# Altium schematic symbol library Inductor SMD.SchLib: 11 symbols
Pins are listed as number, name and electrical type; pins without a type are passive.

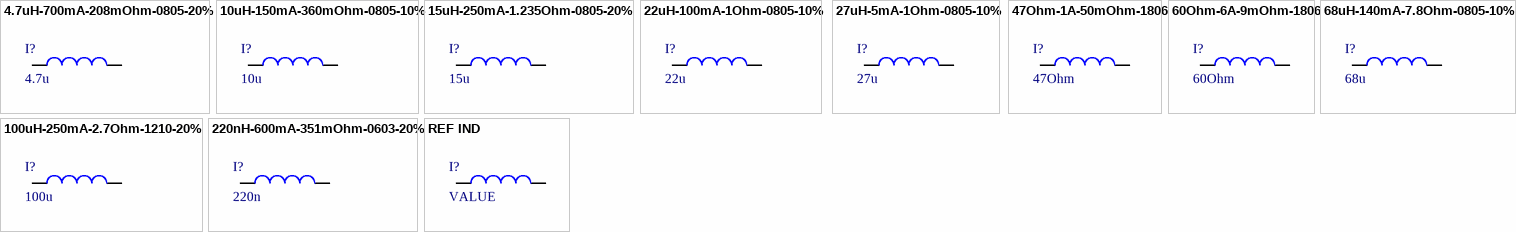
[diagram p0: symbols 4.7uH-700mA-208mOhm-0805-20% to REF IND]

## 4.7uH-700mA-208mOhm-0805-20%
designator I?, comment 4.7u
4.7u, 700mA Current Rating, 208mOhm Resistance, 0805 Package; ManufacturerName: Taiyo Yuden; ManufacturerReference: CKP2012N4R7M-T; InventoryNumber: IND001; Value: 4.7uH; Other: 20%; Category: Inductor; DistributorName: Digikey; DistributorReference: 587-2773-1-ND; Resistance: 208mOhm; PackageReference: 0805; CurrentRating: 700mA
footprint IND 0805/2012 Taiyo Yuden (Chip Inductor, 2-Leads, Body 2.00x1.25mm, IPC High Density)
pins: 1, 2

## 10uH-150mA-360mOhm-0805-10%
designator I?, comment 10u
10u, 150mA Current Rating, 360mOhm Resistance, 0805 Package; ManufacturerName: Taiyo Yuden; ManufacturerReference: LBR2012T100K; InventoryNumber: INDOO2; Value: 10uH; Other: 10%; Category: Inductor; DistributorName: Digikey; DistributorReference: 587-2045-1-ND; Resistance: 360mOhm; PackageReference: 0805; CurrentRating: 150mA
footprint IND 0805/2012 Taiyo Yuden (Chip Inductor, 2-Leads, Body 2.00x1.25mm, IPC High Density)
pins: 1, 2

## 15uH-250mA-1.235Ohm-0805-20%
designator I?, comment 15u
15u, 250mA Current Rating, 1.235Ohm Resistance, 0805 Package; ManufacturerName: TDK Corporation; ManufacturerReference: MLZ2012M150WT000; InventoryNumber: IND003; Value: 15uH; Other: 20%; Category: Inductor; DistributorName: Digikey; DistributorReference: 445-6397-1-ND; Resistance: 1.235Ohm; PackageReference: 0805; CurrentRating: 250mA
footprint IND 0805/2012 Taiyo Yuden (Chip Inductor, 2-Leads, Body 2.00x1.25mm, IPC High Density)
pins: 1, 2

## 22uH-100mA-1Ohm-0805-10%
designator I?, comment 22u
22u, 100mA Current Rating, 1Ohm Resistance, 0805 Package; ManufacturerName: Taiyo Yuden; ManufacturerReference: LBR2012T220K; InventoryNumber: IND004; Value: 22uH; Other: 10%; Category: Inductor; DistributorName: Digikey; DistributorReference: 587-2046-1-ND; Resistance: 1 Ohm; PackageReference: 0805; CurrentRating: 100mA
footprint IND 0805/2012 Taiyo Yuden (Chip Inductor, 2-Leads, Body 2.00x1.25mm, IPC High Density)
pins: 1, 2

## 27uH-5mA-1Ohm-0805-10%
designator I?, comment 27u
27u, 5mA Current Rating, 1Ohm Resistance, 0805 Package; ManufacturerName: TDK Corporation; ManufacturerReference: MLF2012C270KT000; InventoryNumber: IND005; Value: 27uH; Other: 10%; Category: Inductor; DistributorName: Digikey; DistributorReference: 445-1064-1-ND; Resistance: 1 Ohm; PackageReference: 0805; CurrentRating: 5mA
footprint IND 0805/2012 Taiyo Yuden (Chip Inductor, 2-Leads, Body 2.00x1.25mm, IPC High Density)
pins: 1, 2

## 47Ohm-1A-50mOhm-1806
designator I?, comment 47Ohm
47Ohm, 1A Current Rating, 50mOhm Resistance, 0805 Package; ManufacturerName: Taiyo Yuden; ManufacturerReference: BK2125HS470-T; InventoryNumber: IND007; Resistance@Frequency: 47Ohm@100Mhz; Category: Inductor; DistributorName: Digikey; DistributorReference: 587-1911-1-ND; DC Resistance: 50mOhm; PackageReference: 0805; CurrentRating: 1A
footprint IND 0805/2012 Taiyo Yuden (Chip Inductor, 2-Leads, Body 2.00x1.25mm, IPC High Density)
pins: 1, 2

## 60Ohm-6A-9mOhm-1806
designator I?, comment 60Ohm
60Ohm, 6A Current Rating, 9mOhm Resistance, 1806 Package; ManufacturerName: Murata Electronics North America; ManufacturerReference: BLM41PG600SN1L; InventoryNumber: IND006; Resistance@Frequency: 60Ohm@100Mhz; Category: Inductor; DistributorName: Digikey; DistributorReference: 490-1058-1-ND; DC Resistance: 9mOhm; PackageReference: 1806; CurrentRating: 6A
footprint IND 1806/4516 Murata Electronics North America (Chip Inductor, 2-Leads, Body 4.50x1.60mm, IPC High Density)
pins: 1, 2

## 68uH-140mA-7.8Ohm-0805-10%
designator I?, comment 68u
68u, 140mA Current Rating, 7.8Ohm Resistance, 0805 Package; ManufacturerName: Taiyo Yuden; ManufacturerReference: CB2012T680K; InventoryNumber: IND009; Value: 68uH; Other: 10%; Category: Inductor; DistributorName: Digikey; DistributorReference: 587-2461-1-ND; Resistance: 7.8Ohm; PackageReference: 0805; CurrentRating: 140mA
footprint IND 0805/2012 Taiyo Yuden (Chip Inductor, 2-Leads, Body 2.00x1.25mm, IPC High Density)
pins: 1, 2

## 100uH-250mA-2.7Ohm-1210-20%
designator I?, comment 100u
100u, 250mA Current Rating, 2.7Ohm Resistance, 1210 Package; ManufacturerName: Murata Electronics North America; ManufacturerReference: LQH32PN101MN0L; InventoryNumber: IND010; Value: 100uH; Other: 20%; Category: Inductor; DistributorName: Digikey; DistributorReference: 490-11680-1-ND; Resistance: 2.7Ohm; PackageReference: 1210; CurrentRating: 250mA
footprint IND 1210/3225 Murata Electronics North America
pins: 1, 2

## 220nH-600mA-351mOhm-0603-20%
designator I?, comment 220n
220n, 600mA Current Rating, 351mOhm Resistance, 0603 Package; ManufacturerName: TDK Corporation; ManufacturerReference: MLZ1608DR22DT000; InventoryNumber: IND008; Value: 220nH; Other: 20%; Category: Inductor; DistributorName: Digikey; DistributorReference: 445-6387-1-ND; Resistance: 351mOhm; PackageReference: 0603; CurrentRating: 600mA
footprint IND 0603/1608 TDK Corporation (Chip Inductor, 2-Leads, Body 1.60x0.80mm, IPC High Density)
pins: 1, 2

## REF IND
designator I?, comment VALUE
, Current Rating, Resistance, Package; Category: Inductor; DistributorName: Digikey; DistributorReference: *; InventoryNumber: *; ManufacturerName: *; ManufacturerReference: *; Resistance: *; PackageReference: *; Value: *; CurrentRating: *; Other: *
pins: 1, 2